# EAGLE library part 0915LP15B026 (library johanson-tech)
LOW PASS FILTER
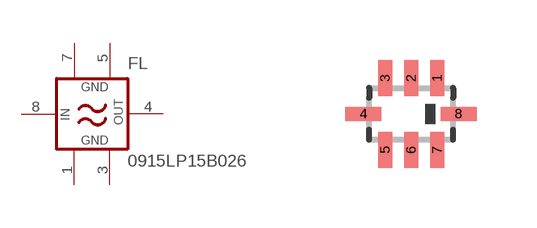
[diagram p3: symbol with the pads of 0915LP15B026; footprint 0915LP15B026]

Designator prefix FL

## 0915LP15B026  [0915LP15B026]
1  GND1  pas
3  GND2  pas
4  OUT  pas
5  GND3  pas
7  GND4  pas
8  IN  pas

## Footprint 0915LP15B026 (pad centres in mm)
915 MHz Low Pass Filter
smd 0.35 x 0.9: 1 0.65,0.9; 2 0,0.9; 3 -0.65,0.9; 5 -0.65,-0.9; 6 0,-0.9; 7 0.65,-0.9
smd 0.9 x 0.35: 4 -1.19,0; 8 1.19,0